# EAGLE library part PS_EMS-7219 (library 1A-meinLib)
Blocknetzteil +-15V/120mA, 5V/300mA, EMS-Power, RS: 592-929
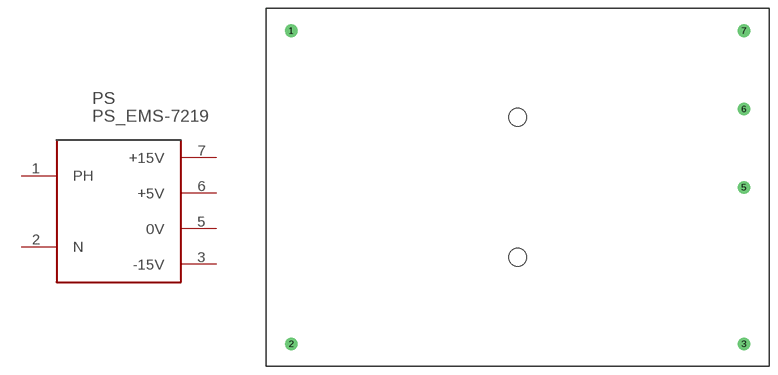
[diagram p17: symbol with the pads of PS_EMS-7219; footprint PS_EMS-7219]

Designator prefix PS

## PS_EMS-7219  [PS_EMS-7219]
1  PH  pwr
2  N  pwr
3  -15V  pwr
5  0V  pwr
6  +5V  pwr
7  +15V  pwr

## Footprint PS_EMS-7219 (pad centres in mm)
drill 1.5 round: 1 -40.5,28; 2 -40.5,-28; 3 40.5,-28; 5 40.5,0; 6 40.5,14; 7 40.5,28
hole 3.2 at 0,12.5
hole 3.2 at 0,-12.5